# Altium schematic symbol library SCH - POWER - SWITCHMODE - TI TPS560430YDBV.SchLib: 1 symbol
Pins are listed as number, name and electrical type; pins without a type are passive.

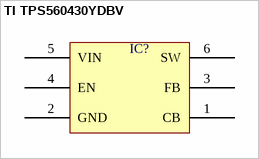
[diagram p0: symbol TI TPS560430YDBV]

## TI TPS560430YDBV
designator IC?  (value not drawn)
pins: 1 CB, 2 GND, 3 FB, 4 EN, 5 VIN, 6 SW